# Altium schematic symbol library Inductor.SchLib: 1 symbol
Pins are listed as number, name and electrical type; pins without a type are passive.

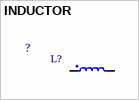
[diagram p0: symbol INDUCTOR]

## INDUCTOR
designator L?, comment ?
inductor/ferrit
footprint IND 0530 (IND SMD 0530)
footprint IND_FILTERS_FERRIT 0805
footprint IND CD53
footprint IND 12x12x10 (Cuon Cam 12x12x10)
footprint IND_FILTERS_FERRIT 0603
footprint IND 12X12X8 (IND 12X12X8, 33uH, 47uH, 68uH)
footprint IND CDRH74
footprint IND 0630 (IND 0630; 10uH, 15uH)
footprint IND CD43
footprint IND CD32
pins: 1, 2